# Altium schematic symbol library 接头.SchLib: 4 symbols
Pins are listed as number, name and electrical type; pins without a type are passive.

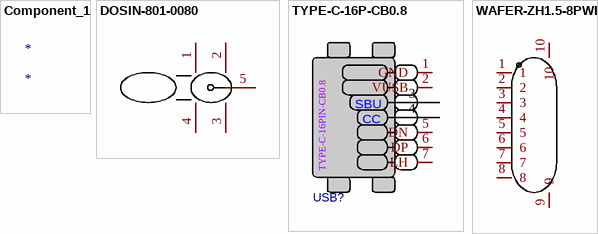
[diagram p0: symbols Component_1 to WAFER-ZH1.5-8PWB]

## Component_1
designator *

## DOSIN-801-0080
designator RF??  (value not drawn)
Manufacturer: dosinconn(德索五金); Add into BOM: yes; Connector Type: 板端; Frequency-Max: 3GHz; Interface Diameter: 9.6mm; RF Series: BNC; Number of Ports: 1; Impedance: 50Ω; Style: 弯头; Name: DOSIN-801-0080; Symbol: DOSIN-801-0080; Device: DOSIN-801-0080; LCSC Part Name: BNC 弯头 1代，三件套; Supplier Part: C521219; Manufacturer Part: DOSIN-801-0080; Supplier Footprint: 插件; JLCPCB Part Class: Extended Part; Datasheet: https://atta.szlcsc.com/upload/public/pdf/source/20200430/C521219_5C4E877D51B90C03551900B0F93D68EB.pdf; Supplier: LCSC; Convert to PCB: yes; Interface Type: -; Interface Length/Height: -; Operating Temperature Range: -55℃~+155℃
footprint BNC-TH_DOSIN-801-0080
3D model BNC-TH_DOSIN-801-0080
pins: 1, 2, 3, 4, 5

## TYPE-C-16P-CB0.8
designator USB?  (value not drawn)
BOM_Manufacturer: kinghelm(金航标); BOM_Manufacturer Part: KH-TYPE-C-CB.W-16P; Contributor: WOSHI6666444444; BOM_Supplier: LCSC; BOM_Supplier Part: C2688792; BOM_JLCPCB Part Class: Extended Part; spicePre: U; spiceSymbolName: TYPE-C-16P-CB0.8
footprint USB-C_SMD-TYPE-C-31-M-12
pins: 1 GND, 2 VUSB, 3 8, 4 9, 5 DN, 6 DP, 7 EH
text: SBU; CC; TYPE-C-16PIN-CB0.8

## WAFER-ZH1.5-8PWB
designator U??  (value not drawn)
Manufacturer: XUNPU(讯普); Add into BOM: yes; Pins Structure: 1x8P; Pitch: 1.5mm; Number of PINs Per Row: 8; Current Rating (Max): 1A; Symbol: WAFER-ZH1.5-8PWB; Device: WAFER-ZH1.5-8PWB; Supplier: LCSC; Supplier Part: C3029428; Manufacturer Part: WAFER-ZH1.5-8PWB; JLCPCB Part Class: Extended Part; LCSC Part Name: 1x8P 间距:1.5mm 卧贴; Supplier Footprint: SMD,P=1.5mm,卧贴; Datasheet: https://atta.szlcsc.com/upload/public/pdf/source/20220527/F63BB9927793921BBB0650484B18B1AD.pdf; Convert to PCB: yes; Mounting Style: 卧贴; Number of Pins: 8P; Number of Rows: 1; Operating Temperature Range: -25℃~+85℃
footprint CONN-SMD_8P-P1.50_XUNPU_WAFER-ZH1.5-8PWB
pins: 1, 2, 3, 4, 5, 6, 7, 8, 9, 10